# Altium schematic symbol library CRGH0805F4K7.SchLib: 1 symbol
Pins are listed as number, name and electrical type; pins without a type are passive.

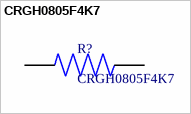
[diagram p0: symbol CRGH0805F4K7]

## CRGH0805F4K7
designator R?
CRGH0805 1% 4K7 0.33W; Value: 4.7k; Tolerance: ±1%
footprint CRGH0805F4K7
pins: 1, 1, 2, 2